# EAGLE library part IDT70V (library 1_spektrak)
8/4K x 16 DUAL-PORT STATIC RAM
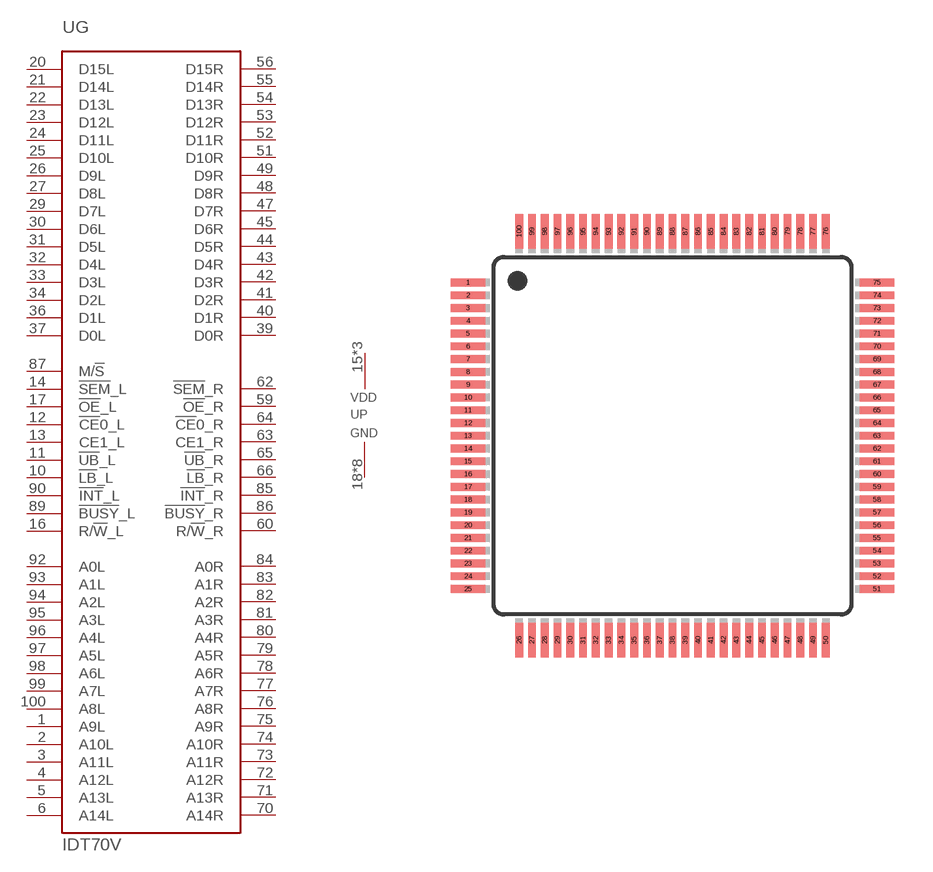
[diagram p3: symbol with the pads of TQFP100; footprint TQFP100]

Designator prefix U; gates G=IDT70V P=PWRGND

## IDT70V (OC_FARNELL: unknown; OC_NEWARK: unknown)  [TQFP100]
1  G:A9L  in
2  G:A10L  in
3  G:A11L  in
4  G:A12L  in
5  G:A13L  in
6  G:A14L  in
10  G:!LB!_L  in
11  G:!UB!_L  in
12  G:!CE!0_L  in
13  G:CE1_L  in
14  G:!SEM!_L  in
15  P:VDD  pwr
16  G:R/!W!_L  in
17  G:!OE!_L  in
18  P:GND  pwr
19  P:GND  pwr
20  G:D15L
21  G:D14L
22  G:D13L
23  G:D12L
24  G:D11L
25  G:D10L
26  G:D9L
27  G:D8L
28  P:VDD  pwr
29  G:D7L
30  G:D6L
31  G:D5L
32  G:D4L
33  G:D3L
34  G:D2L
35  P:GND  pwr
36  G:D1L
37  G:D0L
38  P:GND  pwr
39  G:D0R
40  G:D1R
41  G:D2R
42  G:D3R
43  G:D4R
44  G:D5R
45  G:D6R
46  P:VDD  pwr
47  G:D7R
48  G:D8R
49  G:D9R
51  G:D10R
52  G:D11R
53  G:D12R
54  G:D13R
55  G:D14R
56  G:D15R
57  P:GND  pwr
58  P:GND  pwr
59  G:!OE!_R  in
60  G:R/!W!_R  in
61  P:GND  pwr
62  G:!SEM!_R  in
63  G:CE1_R  in
64  G:!CE!0_R  in
65  G:!UB!_R  in
66  G:!LB!_R  in
70  G:A14R  in
71  G:A13R  in
72  G:A12R  in
73  G:A11R  in
74  G:A10R  in
75  G:A9R  in
76  G:A8R  in
77  G:A7R  in
78  G:A6R  in
79  G:A5R  in
80  G:A4R  in
81  G:A3R  in
82  G:A2R  in
83  G:A1R  in
84  G:A0R  in
85  G:!INT!_R  out
86  G:!BUSY!_R  out
87  G:M/!S!  in
88  P:GND  pwr
89  G:!BUSY!_L  out
90  G:!INT!_L  out
92  G:A0L  in
93  G:A1L  in
94  G:A2L  in
95  G:A3L  in
96  G:A4L  in
97  G:A5L  in
98  G:A6L  in
99  G:A7L  in
100  G:A8L  in

## Footprint TQFP100 (pad centres in mm)
100-lead Thin Quad Flat Pack Package
smd 1.346 x 0.305: 1 -8,6; 2 -8,5.5; 3 -8,5; 4 -8,4.5; 5 -8,4; 6 -8,3.5; 7 -8,3; 8 -8,2.5; 9 -8,2; 10 -8,1.5; 11 -8,1; 12 -8,0.5; 13 -8,0; 14 -8,-0.5; 15 -8,-1; 16 -8,-1.5; 17 -8,-2; 18 -8,-2.5; 19 -8,-3; 20 -8,-3.5; 21 -8,-4; 22 -8,-4.5; 23 -8,-5; 24 -8,-5.5; 25 -8,-6; 51 8,-6; 52 8,-5.5; 53 8,-5; 54 8,-4.5; 55 8,-4; 56 8,-3.5; 57 8,-3; 58 8,-2.5; 59 8,-2; 60 8,-1.5; 61 8,-1; 62 8,-0.5; 63 8,0; 64 8,0.5; 65 8,1; 66 8,1.5; 67 8,2; 68 8,2.5; 69 8,3; 70 8,3.5; 71 8,4; 72 8,4.5; 73 8,5; 74 8,5.5; 75 8,6
smd 0.305 x 1.346: 26 -6,-8; 27 -5.5,-8; 28 -5,-8; 29 -4.5,-8; 30 -4,-8; 31 -3.5,-8; 32 -3,-8; 33 -2.5,-8; 34 -2,-8; 35 -1.5,-8; 36 -1,-8; 37 -0.5,-8; 38 0,-8; 39 0.5,-8; 40 1,-8; 41 1.5,-8; 42 2,-8; 43 2.5,-8; 44 3,-8; 45 3.5,-8; 46 4,-8; 47 4.5,-8; 48 5,-8; 49 5.5,-8; 50 6,-8; 76 6,8; 77 5.5,8; 78 5,8; 79 4.5,8; 80 4,8; 81 3.5,8; 82 3,8; 83 2.5,8; 84 2,8; 85 1.5,8; 86 1,8; 87 0.5,8; 88 0,8; 89 -0.5,8; 90 -1,8; 91 -1.5,8; 92 -2,8; 93 -2.5,8; 94 -3,8; 95 -3.5,8; 96 -4,8; 97 -4.5,8; 98 -5,8; 99 -5.5,8; 100 -6,8